# EAGLE library part POKET_BEAGLE_PINOUT_P1_SIDE (library Pocket_Beagle_Pinout)
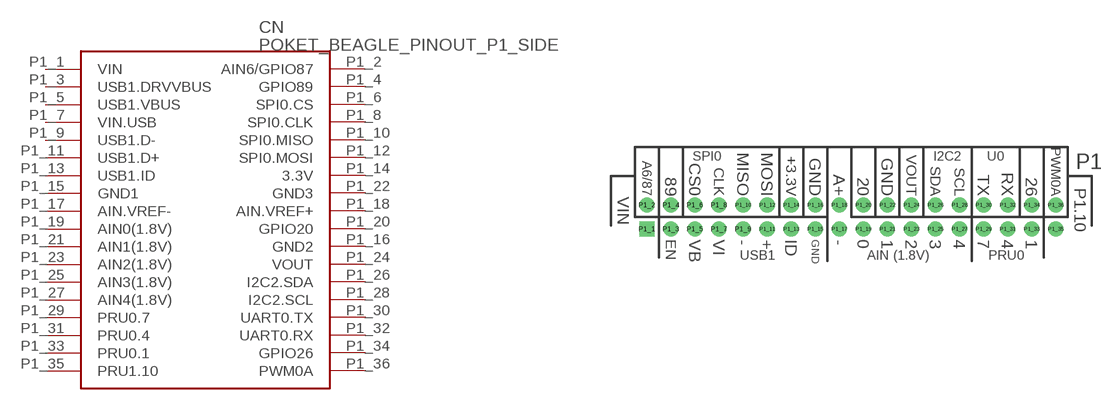
[diagram p2: symbol with the pads of POKET_BEAGLE_PINOUT_P1_SIDE; footprint POKET_BEAGLE_PINOUT_P1_SIDE]

Designator prefix CN

## POKET_BEAGLE_PINOUT_P1_SIDE  [POKET_BEAGLE_PINOUT_P1_SIDE]
P1_1  VIN
P1_2  AIN6/GPIO87
P1_3  USB1.DRVVBUS
P1_4  GPIO89
P1_5  USB1.VBUS
P1_6  SPI0.CS
P1_7  VIN.USB
P1_8  SPI0.CLK
P1_9  USB1.D-
P1_10  SPI0.MISO
P1_11  USB1.D+
P1_12  SPI0.MOSI
P1_13  USB1.ID
P1_14  3.3V
P1_15  GND1
P1_16  GND2
P1_17  AIN.VREF-
P1_18  AIN.VREF+
P1_19  AIN0(1.8V)
P1_20  GPIO20
P1_21  AIN1(1.8V)
P1_22  GND3
P1_23  AIN2(1.8V)
P1_24  VOUT
P1_25  AIN3(1.8V)
P1_26  I2C2.SDA
P1_27  AIN4(1.8V)
P1_28  I2C2.SCL
P1_29  PRU0.7
P1_30  UART0.TX
P1_31  PRU0.4
P1_32  UART0.RX
P1_33  PRU0.1
P1_34  GPIO26
P1_35  PRU1.10
P1_36  PWM0A

## Footprint POKET_BEAGLE_PINOUT_P1_SIDE (pad centres in mm)
drill 0.8 pad 1.6 square: P1_1 -21.649,-1.27
drill 0.8 pad 1.6: P1_2 -21.649,1.27; P1_3 -19.109,-1.27; P1_4 -19.109,1.27; P1_5 -16.569,-1.27; P1_6 -16.569,1.27; P1_7 -14.029,-1.27; P1_8 -14.029,1.27; P1_9 -11.489,-1.27; P1_10 -11.489,1.27; P1_11 -8.949,-1.27; P1_12 -8.949,1.27; P1_13 -6.409,-1.27; P1_14 -6.409,1.27; P1_15 -3.869,-1.27; P1_16 -3.869,1.27; P1_17 -1.329,-1.27; P1_18 -1.329,1.27; P1_19 1.211,-1.27; P1_20 1.211,1.27; P1_21 3.751,-1.27; P1_22 3.751,1.27; P1_23 6.291,-1.27; P1_24 6.291,1.27; P1_25 8.831,-1.27; P1_26 8.831,1.27; P1_27 11.371,-1.27; P1_28 11.371,1.27; P1_29 13.911,-1.27; P1_30 13.911,1.27; P1_31 16.451,-1.27; P1_32 16.451,1.27; P1_33 18.991,-1.27; P1_34 18.991,1.27; P1_35 21.531,-1.27; P1_36 21.531,1.27